# EAGLE library part MAX797 (library matt smd-special)
maxim dc/dc converter
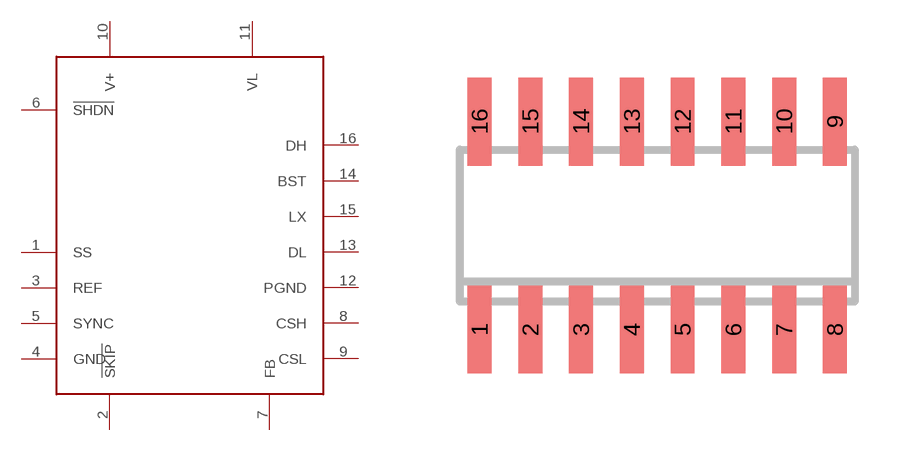
[diagram p1: symbol with the pads of SO16; footprint SO16]

Designator prefix -

## MAX797  [SO16]
1  SS
2  !SKIP
3  REF
4  GND
5  SYNC
6  !SHDN
7  FB
8  CSH
9  CSL
10  V+
11  VL
12  PGND
13  DL
14  BST
15  LX
16  DH

## Footprint SO16 (pad centres in mm)
smd 0.6 x 2.2: 1 -9.525,-4.6; 2 -8.255,-4.6; 3 -6.985,-4.6; 4 -5.715,-4.6; 5 -4.445,-4.6; 6 -3.175,-4.6; 7 -1.905,-4.6; 8 -0.635,-4.6; 9 -0.635,0.6; 10 -1.905,0.6; 11 -3.175,0.6; 12 -4.445,0.6; 13 -5.715,0.6; 14 -6.985,0.6; 15 -8.255,0.6; 16 -9.525,0.6